# Altium footprint library ESP-WROOM-02D.PcbLib: 1 footprints
Each footprint in its own frame and in the unit in brackets; x right, y up, seen from the top. Pads: shape width x height; smd on the part's side, far side on the other; paste and mask are expansions set on the pad; w line width, h text height; cw(c..) or ccw(c..) is an arc to the next point about the centre after c.
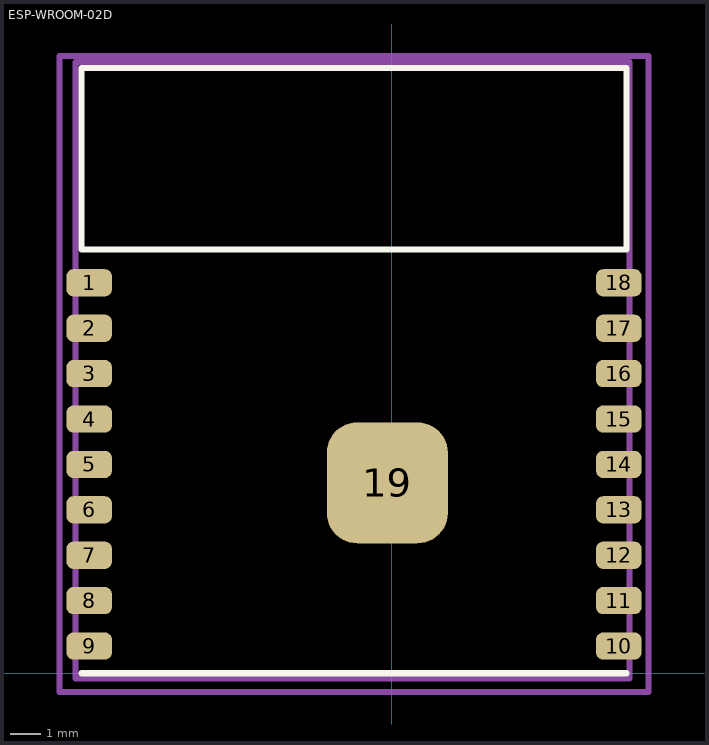
[diagram p0: the footprint, top view; thin cyan lines are the x and y axes]

## ESP-WROOM-02D [mm]
pads (19):
  rrect50% 1.5x0.9 smd mask+0.05: 1(-10,12.9) 2(-10,11.4) 3(-10,9.9) 4(-10,8.4) 5(-10,6.9) 6(-10,5.4) 7(-10,3.9) 8(-10,2.4) 9(-10,0.9) 10(7.5,0.9) 11(7.5,2.4) 12(7.5,3.9) 13(7.5,5.4) 14(7.5,6.9) 15(7.5,8.4) 16(7.5,9.9) 17(7.5,11.4) 18(7.5,12.9)
  rrect50% 4x4 smd mask+0.05: 19(-0.15,6.29)
Top Overlay:
  lines w0.2: -10.25,0 7.75,0 ; -10.25,14 7.75,14 7.75,20 -10.25,20 -10.25,14
Top Assembly:
  lines w0.2: -10.45,-0.175 -10.45,20.2 -10.225,20.2 7.85,20.2 7.85,-0.175 -10.45,-0.175
Top Courtyard:
  lines w0.2: -10.975,-0.625 8.475,-0.625 8.475,20.4 -10.975,20.4 -10.975,12.925 -10.975,-0.625
3D body "User Library-ESP-WROOM-02.step": height 3, standoff 0, extent -10.25,0 7.75,20